# Altium footprint library Weapon_of_Aphelios.PcbLib: 17 footprints (part 2 of 2)
Each footprint in its own frame and in the unit in brackets; x right, y up, seen from the top. Pads: shape width x height; smd on the part's side, far side on the other; paste and mask are expansions set on the pad; w line width, h text height; cw(c..) or ccw(c..) is an arc to the next point about the centre after c.
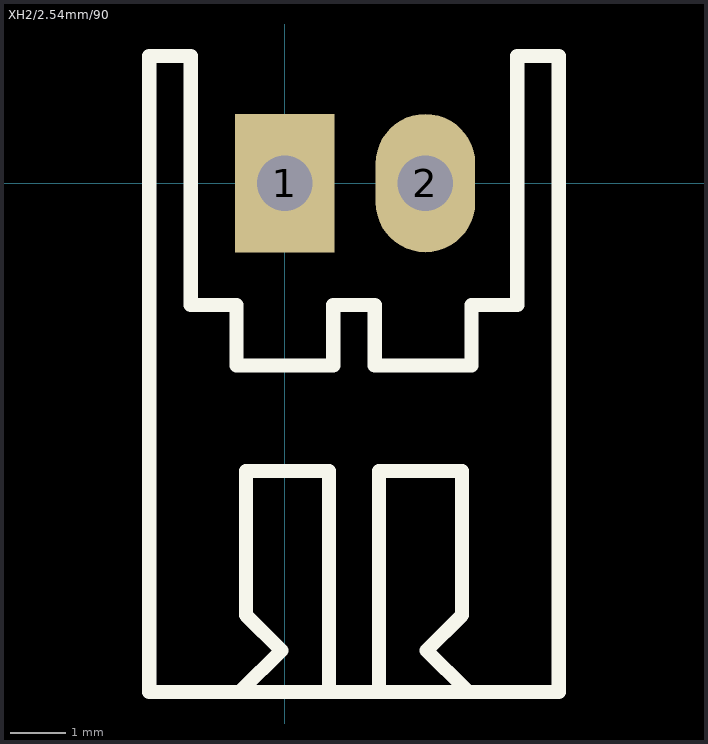
[diagram p1: the footprint, top view; thin cyan lines are the x and y axes]

## XH2/2.54mm/90 [mm]
pads (2):
  rect 1.8x2.5 hole 1: 1(0,0)
  oval 1.8x2.5 hole 1: 2(2.54,0)
Top Overlay:
  lines w0.254: -0.79,-9.172 -0.064,-8.445 -0.7,-7.809 -0.7,-5.2 0.8,-5.2 0.8,-9.2 ; 1.7,-9.2 1.7,-5.2 3.2,-5.2 3.2,-7.809 2.564,-8.445 3.29,-9.172 ; -2.45,-9.2 -2.45,2.3 -1.7,2.3 -1.7,-2.2 -0.875,-2.2 -0.875,-3.3 0.875,-3.3 0.875,-2.2 1.625,-2.2 1.625,-3.3 3.375,-3.3 3.375,-2.2 4.2,-2.2 4.2,2.3 4.95,2.3 4.95,-9.2 -2.45,-9.2
3D body "JST-S2B-XH-A.STEP": height 6.1, standoff -3.4, extent -2.45,-9.2 4.95,2.3